# EAGLE library part TLP2745 (library RoboJackets-ICs)
Logic Output Optoisolator - Push-Pull, Totem Pole 5000Vrms Channel 30kV/µs CMTI 6-SO Datasheet <https://www.digikey.com/en/products/detail/toshiba-semiconductor-and-storage/TLP2745-TP-E/5877817>
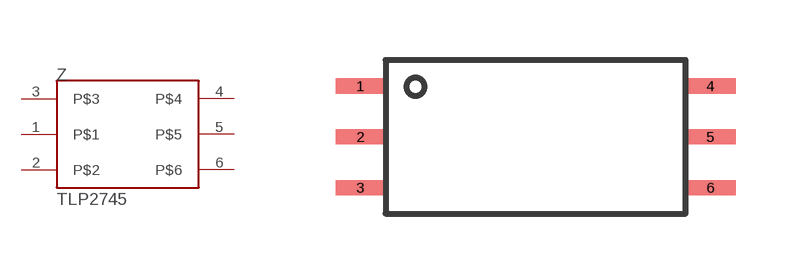
[diagram p23: symbol with the pads of TLP2745; footprint TLP2745]

Designator prefix Z

## TLP2745 (DKPN: TLP2745(TPECT-ND)  [TLP2745]
1  P$1
2  P$2
3  P$3
4  P$4
5  P$5
6  P$6

## Footprint TLP2745 (pad centres in mm)
smd 1.25 x 0.38: 1 -4.375,1.27; 2 -4.375,0; 3 -4.375,-1.27; 4 4.375,1.27; 5 4.375,0; 6 4.375,-1.27